# Altium footprint library D2-PAK.PcbLib: 1 footprints
Each footprint in its own frame and in the unit in brackets; x right, y up, seen from the top. Pads: shape width x height; smd on the part's side, far side on the other; paste and mask are expansions set on the pad; w line width, h text height; cw(c..) or ccw(c..) is an arc to the next point about the centre after c.
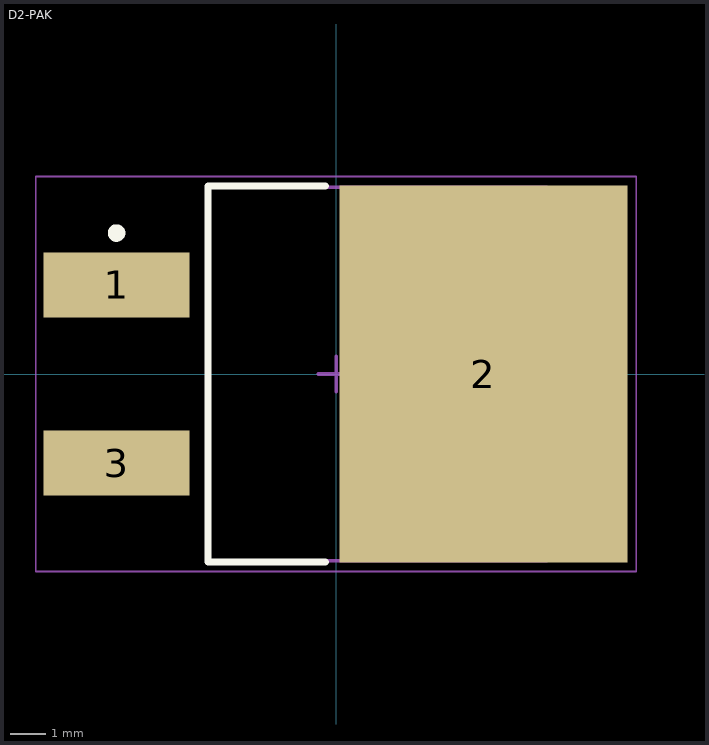
[diagram p0: the footprint, top view; thin cyan lines are the x and y axes]

## D2-PAK [mm] "D2-PAK, 3-Pads, Body 7,93x8,69mm (max), IPC Medium Density"
height 4.83
pads (3):
  rect 4.15x1.85 smd: 1(-6.25,2.54) 3(-6.25,-2.54)
  rect 8.2x10.75 smd: 2(4.2,0)
Top Overlay:
  circle w0.25: c-6.25,4.015 r0.125
  lines w0.2: -0.3,-5.35 -3.65,-5.35 -3.65,5.35 -0.3,5.35
TopAssy:
  lines w0.1: -3.65,-5.325 6,-5.325 6,5.325 -3.65,5.325 -3.65,-5.325
Mechanical 15:
  lines w0.05: -8.55,-5.625 8.55,-5.625 8.55,5.625 -8.55,5.625 -8.55,-5.625
  lines w0.1: -0.5,0 0.5,0 ; 0,-0.5 0,0.5
3D body "User Library-DPAK.step": height 4.88, standoff -0.13, extent -7.717,-5.046 7.546,5.114